# EAGLE library part DAC:AD5346-8(12BIT-PAR-OCTAL) (library QuantumOptics)
AD5346-8, Analog Devices, octal DAC, 10- to 12-bit, parallel, single supply. http://www.analog.com/UploadedFiles/Data_Sheets/4283875071479AD5346_7_8_0.pdf.
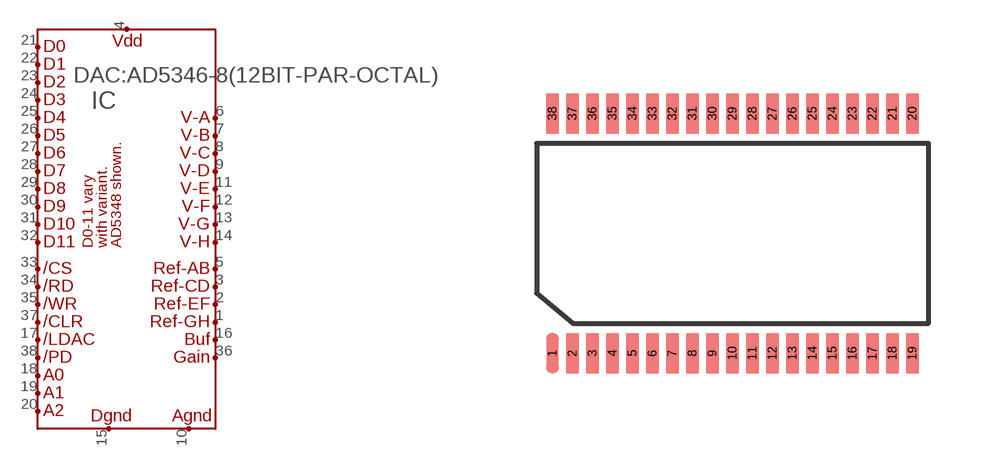
[diagram p66: symbol with the pads of TSSOP-38; footprint TSSOP-38]

Designator prefix IC

## DAC:AD5346-8(12BIT-PAR-OCTAL)BRU(TSSOP-38)  [TSSOP-38]
1  REF-GH
2  REF-EF
3  REF-CD
4  VDD
5  REF-AB
6  V-A  out
7  V-B  out
8  V-C  out
9  V-D  out
10  AGND
11  V-E  out
12  V-F  out
13  V-G  out
14  V-H  out
15  DGND
16  BUF
17  /LDAC  in
18  A0  out
19  A1  out
20  A2  out
21  DB0  in
22  DB1  in
23  DB2  in
24  DB3  in
25  DB4  in
26  DB5  in
27  DB6  in
28  DB7  in
29  DB8  in
30  DB9  in
31  DB10  in
32  DB11  in
33  /CS  in
34  /RD  in
35  /WR  in
36  GAIN
37  /CLR  in
38  /PD  in

## Footprint TSSOP-38 (pad centres in mm)
TSSOP-38, pins 0.5mm c-c, pins 6.4mm max width
smd 0.32 x 1: 1 -4.5,-3; 2 -4,-3; 3 -3.5,-3; 4 -3,-3; 5 -2.5,-3; 6 -2,-3; 7 -1.5,-3; 8 -1,-3; 9 -0.5,-3; 10 0,-3; 11 0.5,-3; 12 1,-3; 13 1.5,-3; 14 2,-3; 15 2.5,-3; 16 3,-3; 17 3.5,-3; 18 4,-3; 19 4.5,-3; 20 4.5,3; 21 4,3; 22 3.5,3; 23 3,3; 24 2.5,3; 25 2,3; 26 1.5,3; 27 1,3; 28 0.5,3; 29 0,3; 30 -0.5,3; 31 -1,3; 32 -1.5,3; 33 -2,3; 34 -2.5,3; 35 -3,3; 36 -3.5,3; 37 -4,3; 38 -4.5,3